# Altium footprint library Semiconductor.PcbLib: 27 footprints (part 2 of 2)
Each footprint in its own frame and in the unit in brackets; x right, y up, seen from the top. Pads: shape width x height; smd on the part's side, far side on the other; paste and mask are expansions set on the pad; w line width, h text height; cw(c..) or ccw(c..) is an arc to the next point about the centre after c.
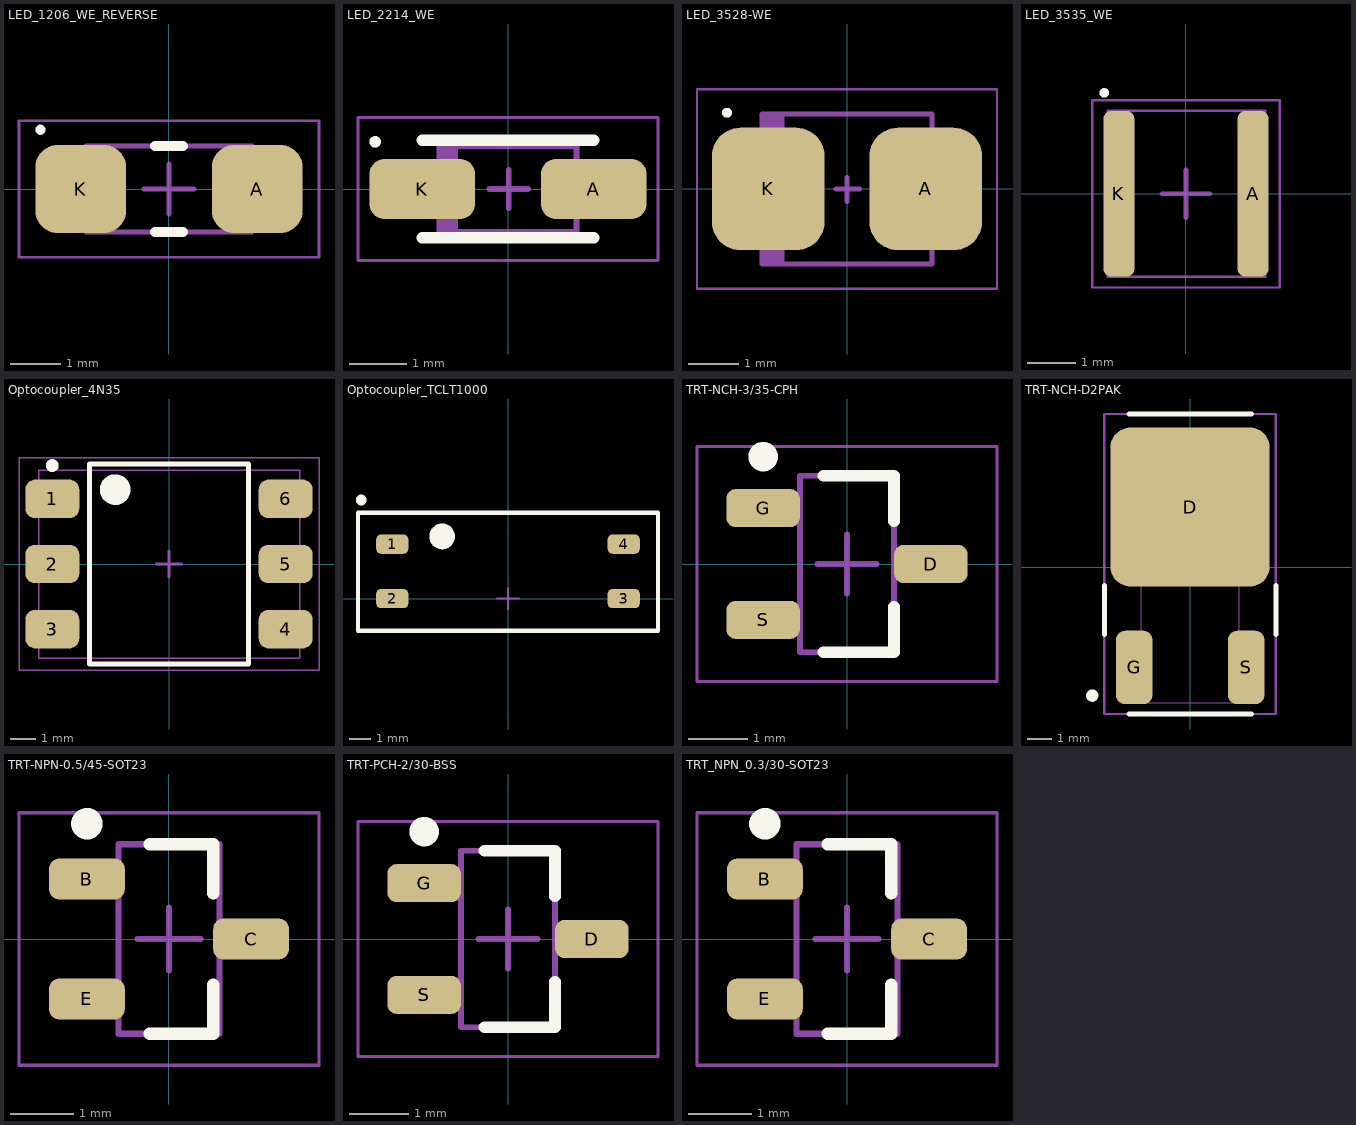
[diagram p1: the footprints below, top view; thin cyan lines are the x and y axes]

## LED_1206_WE_REVERSE [mm] "Molded Capacitor, 2-Leads, Body 3,20x1,60mm, IPC Low Density"
height 1.95
pads (2):
  rrect50% 1.8x1.75 smd: A(1.75,0) K(-1.75,0)
Top Overlay:
  circle w0.1: c-2.55,1.175 r0.05
  lines w0.2: -0.275,-0.85 0.275,-0.85 ; -0.275,0.85 0.275,0.85
Top Component Outline:
  rectangle: -1.65,-0.85 -1.206,0.85
  lines w0.05: -2.975,-1.35 -2.975,1.35 2.975,1.35 2.975,-1.35 -2.975,-1.35
  lines w0.1: -0.5,0 0.5,0 ; 0,-0.5 0,0.5 ; -1.65,-0.85 -1.65,0.85 1.65,0.85 1.65,-0.85 -1.65,-0.85
  text "'.Designator'" at -2.875,-1.017 h0.7
3D body "SMD LED -1206.step": height 1.11, standoff 0.01, extent -1.625,-0.8 1.575,0.8

## LED_2214_WE [mm] "Molded Capacitor, 2-Leads, Body 2,30x1,40mm, IPC Low Density"
height 1.41
pads (2):
  rrect50% 1.85x1.05 smd: A(1.5,0) K(-1.5,0)
Top Overlay:
  circle w0.1: c-2.325,0.825 r0.05
  lines w0.2: -1.5,-0.85 1.5,-0.85 ; -1.5,0.85 1.5,0.85
Top Component Outline:
  rectangle: -1.2,-0.75 -0.877,0.75
  lines w0.05: -2.625,-1.25 2.625,-1.25 2.625,1.25 -2.625,1.25 -2.625,-1.25
  lines w0.1: -0.325,0 0.35,0 ; 0.012,-0.337 0.012,0.337 ; -1.2,-0.75 1.2,-0.75 1.2,0.75 -1.2,0.75 -1.2,-0.75
  text "'.Designator'" at -2.525,-0.917 h0.7
3D body "150224GS73100A.stp": height 1.52, standoff 0.01, extent -1,-0.7 1,0.7

## LED_3528-WE [mm] "Molded Capacitor, 2-Leads, Body 3,20x2,70mm, IPC Low Density"
height 2.1
pads (2):
  rrect50% 2.25x2.45 smd: A(1.575,0) K(-1.575,0)
Top Overlay:
  circle w0.1: c-2.4,1.525 r0.05
Top Component Outline:
  rectangle: -1.703,-1.5 -1.245,1.5
  lines w0.05: -3,-2 -3,2 3,2 3,-2 -3,-2
  lines w0.1: -0.225,0 0.25,0 ; -0.003,-0.247 -0.003,0.228 ; -1.703,-1.5 -1.703,1.5 1.697,1.5 1.697,-1.5 -1.703,-1.5
  text "'.Designator'" at -2.9,-1.667 h0.7
3D body "150141RS73100.stp": height 1.91, standoff 0.01, extent -1.75,-1.4 1.75,1.4

## LED_3535_WE [mm] "DFN, 2-Leads, Body 3,25x3,25mm, Pitch 2,28mm, IPC Medium Density"
height 2.25
pads (2):
  rrect50% 0.65x3.45 smd: A(1.397,0) K(-1.397,0)
Top Overlay:
  circle w0.1: c-1.7,2.1 r0.05
Top Component Outline:
  lines w0.05: -1.95,-1.95 -1.95,1.95 1.95,1.95 1.95,-1.95 -1.95,-1.95 ; -1.625,-1.725 1.65,-1.725 1.65,1.725 -1.625,1.725 -1.625,-1.725
  lines w0.1: -0.5,0 0.5,0 ; 0,-0.5 0,0.5
  text "'.Designator'" at -1.875,-1.392 h0.7
3D body "150353GS74500.stp": height 2.1, standoff 0, extent -1.725,-1.725 1.725,1.725

## Optocoupler_4N35 [mm] "SOP, 6-Leads, Body 7,30x6,50mm, Pitch 2,54mm, IPC Medium Density"
height 4
pads (6):
  rrect50% 2.1x1.5 smd: 1(-4.55,2.54) 2(-4.55,0) 3(-4.55,-2.54) 4(4.55,-2.54) 5(4.55,0) 6(4.55,2.54)
Top Overlay:
  circle w0.6: c-2.1,2.9 r0.3
  circle w0.25: c-4.55,3.84 r0.125
  lines w0.2: -3.1,-3.9 3.1,-3.9 3.1,3.9 -3.1,3.9 -3.1,-3.9
Top Component Outline:
  lines w0.05: -5.85,-4.15 5.85,-4.15 5.85,4.15 -5.85,4.15 -5.85,-4.15 ; -5.075,-3.675 -5.075,3.65 5.1,3.65 5.1,-3.675 -5.075,-3.675
  lines w0.1: -0.5,0 0.5,0 ; 0,-0.5 0,0.5
  text "'.Designator'" at -4.9,-3.317 h0.7
3D body "4N35S-TA1.stp": height 4.6, standoff 0, extent -5.08,-3.65 5.08,3.65

## Optocoupler_TCLT1000 [mm]
height 4
pads (4):
  rrect50% 1.5x0.9 smd: 1(-5.4,2.54) 2(-5.4,0) 3(5.4,0) 4(5.4,2.54)
Top Overlay:
  circle w0.25: c-6.85,4.6 r0.125
  circle w0.6: c-3.075,2.9 r0.3
  lines w0.2: -7,-1.5 7,-1.5 7,4 -7,4 -7,-1.5
Top Component Outline:
  lines w0.05: -7,-1.5 7,-1.5 ; -7,-1.5 -7,4 ; -7,-1.5 -7,4 ; -7,-1.5 7,-1.5 ; -7,4 7,4 ; -7,4 7,4 ; 7,-1.5 7,4 ; 7,-1.5 7,4
  lines w0.1: -0.5,0 0.5,0 ; 0,-0.5 0,0.5
  text "'.Designator'" at -4.15,1.033 h0.7
3D body "SOP-4L_TC.step": height 2.31, standoff 0, extent -5.195,-0.77 5.295,3.32

## TRT-NCH-3/35-CPH [mm] "SOT23, 3-Leads, Body 2,90x2,80mm, Pitch 0,95mm, IPC Low Density"
height 1.4
pads (3):
  rrect50% 1.25x0.65 smd: D(1.425,0) G(-1.425,0.95) S(-1.425,-0.95)
Top Overlay:
  circle w0.25: c-1.425,1.825 r0.125
  lines w0.2: -0.4,-1.5 0.8,-1.5 0.8,-0.725 ; -0.4,1.5 0.8,1.5 0.8,0.725
Top Component Outline:
  lines w0.05: -2.55,-2 -2.55,2 2.55,2 2.55,-2 -2.55,-2
  lines w0.1: -0.5,0 0.5,0 ; 0,-0.5 0,0.5 ; -0.8,-1.5 0.8,-1.5 0.8,1.5 -0.8,1.5 -0.8,-1.5
  text "'.Designator'" at -2.45,-1.667 h0.7
3D body "CPH3455-TL-H.stp": height 1.06, standoff 0.01, extent -1.4,-1.45 1.4,1.45

## TRT-NCH-D2PAK [mm] "SOT23, 3-Leads, Body 2,90x2,80mm, Pitch 0,95mm, IPC Low Density"
height 1.4
pads (3):
  rrect25% 6.5x6.5 smd: D(0,2.45)
  rrect50% 1.5x3 smd: G(-2.286,-4.1) S(2.286,-4.1)
Top Overlay:
  circle w0.25: c-4,-5.25 r0.125
  lines w0.2: -3.5,-2.75 -3.5,-0.75 ; -2.5,-6 2.5,-6 ; -2.5,6.25 2.5,6.25 ; 3.5,-2.75 3.5,-0.75
Top Component Outline:
  lines w0.05: -2,-5.55 -2,-0.45 2,-0.45 2,-5.55 -2,-5.55
  lines w0.1: -0.5,0 0.5,0 ; 0,-0.5 0,0.5 ; -3.5,-6 3.5,-6 3.5,6.25 -3.5,6.25 -3.5,-6
  text "'.Designator'" at 1.667,-5.45 h0.7
3D body "TO252-DPAK.STP": height 2.29, standoff -0.09, extent -3.29,-5.121 3.291,4.8

## TRT-NPN-0.5/45-SOT23 [mm] "SOT23, 3-Leads, Body 2,92x2,37mm, Pitch 0,95mm, IPC Low Density"
height 1.11
pads (3):
  rrect50% 1.2x0.65 smd: B(-1.3,0.95) C(1.3,0) E(-1.3,-0.95)
Top Overlay:
  circle w0.25: c-1.3,1.825 r0.125
  lines w0.2: -0.3,-1.5 0.7,-1.5 0.7,-0.725 ; -0.3,1.5 0.7,1.5 0.7,0.725
Top Component Outline:
  lines w0.05: -2.375,-2 2.375,-2 2.375,2 -2.375,2 -2.375,-2
  lines w0.1: -0.5,0 0.5,0 ; 0,-0.5 0,0.5 ; -0.8,-1.5 -0.8,1.5 0.8,1.5 0.8,-1.5 -0.8,-1.5
  text "'.Designator'" at -2.275,-1.667 h0.7
3D body "BC817-25LT1G.stp": height 1.12, standoff 0.01, extent -1.185,-1.46 1.185,1.46

## TRT-PCH-2/30-BSS [mm] "SOT23, 3-Leads, Body 2,90x2,80mm, Pitch 0,95mm, IPC Low Density"
height 1.4
pads (3):
  rrect50% 1.25x0.65 smd: D(1.425,0) G(-1.425,0.95) S(-1.425,-0.95)
Top Overlay:
  circle w0.25: c-1.425,1.825 r0.125
  lines w0.2: -0.4,-1.5 0.8,-1.5 0.8,-0.725 ; -0.4,1.5 0.8,1.5 0.8,0.725
Top Component Outline:
  lines w0.05: -2.55,-2 -2.55,2 2.55,2 2.55,-2 -2.55,-2
  lines w0.1: -0.5,0 0.5,0 ; 0,-0.5 0,0.5 ; -0.8,-1.5 0.8,-1.5 0.8,1.5 -0.8,1.5 -0.8,-1.5
  text "'.Designator'" at -2.45,-1.667 h0.7
3D body "CPH3455-TL-H.stp": height 1.06, standoff 0.01, extent -1.4,-1.45 1.4,1.45

## TRT_NPN_0.3/30-SOT23 [mm] "SOT23, 3-Leads, Body 2,92x2,37mm, Pitch 0,95mm, IPC Low Density"
height 1.11
pads (3):
  rrect50% 1.2x0.65 smd: B(-1.3,0.95) C(1.3,0) E(-1.3,-0.95)
Top Overlay:
  circle w0.25: c-1.3,1.825 r0.125
  lines w0.2: -0.3,-1.5 0.7,-1.5 0.7,-0.725 ; -0.3,1.5 0.7,1.5 0.7,0.725
Top Component Outline:
  lines w0.05: -2.375,-2 -2.375,2 2.375,2 2.375,-2 -2.375,-2
  lines w0.1: -0.5,0 0.5,0 ; 0,-0.5 0,0.5 ; -0.8,-1.5 0.8,-1.5 0.8,1.5 -0.8,1.5 -0.8,-1.5
  text "'.Designator'" at -2.275,-1.667 h0.7
3D body "MMBTA14LT1G.stp": height 1.12, standoff 0.01, extent -1.169,-1.476 1.201,1.444